# Altium footprint library Passive-Discrete.PcbLib: 30 footprints (part 2 of 2)
Each footprint in its own frame and in the unit in brackets; x right, y up, seen from the top. Pads: shape width x height; smd on the part's side, far side on the other; paste and mask are expansions set on the pad; w line width, h text height; cw(c..) or ccw(c..) is an arc to the next point about the centre after c.
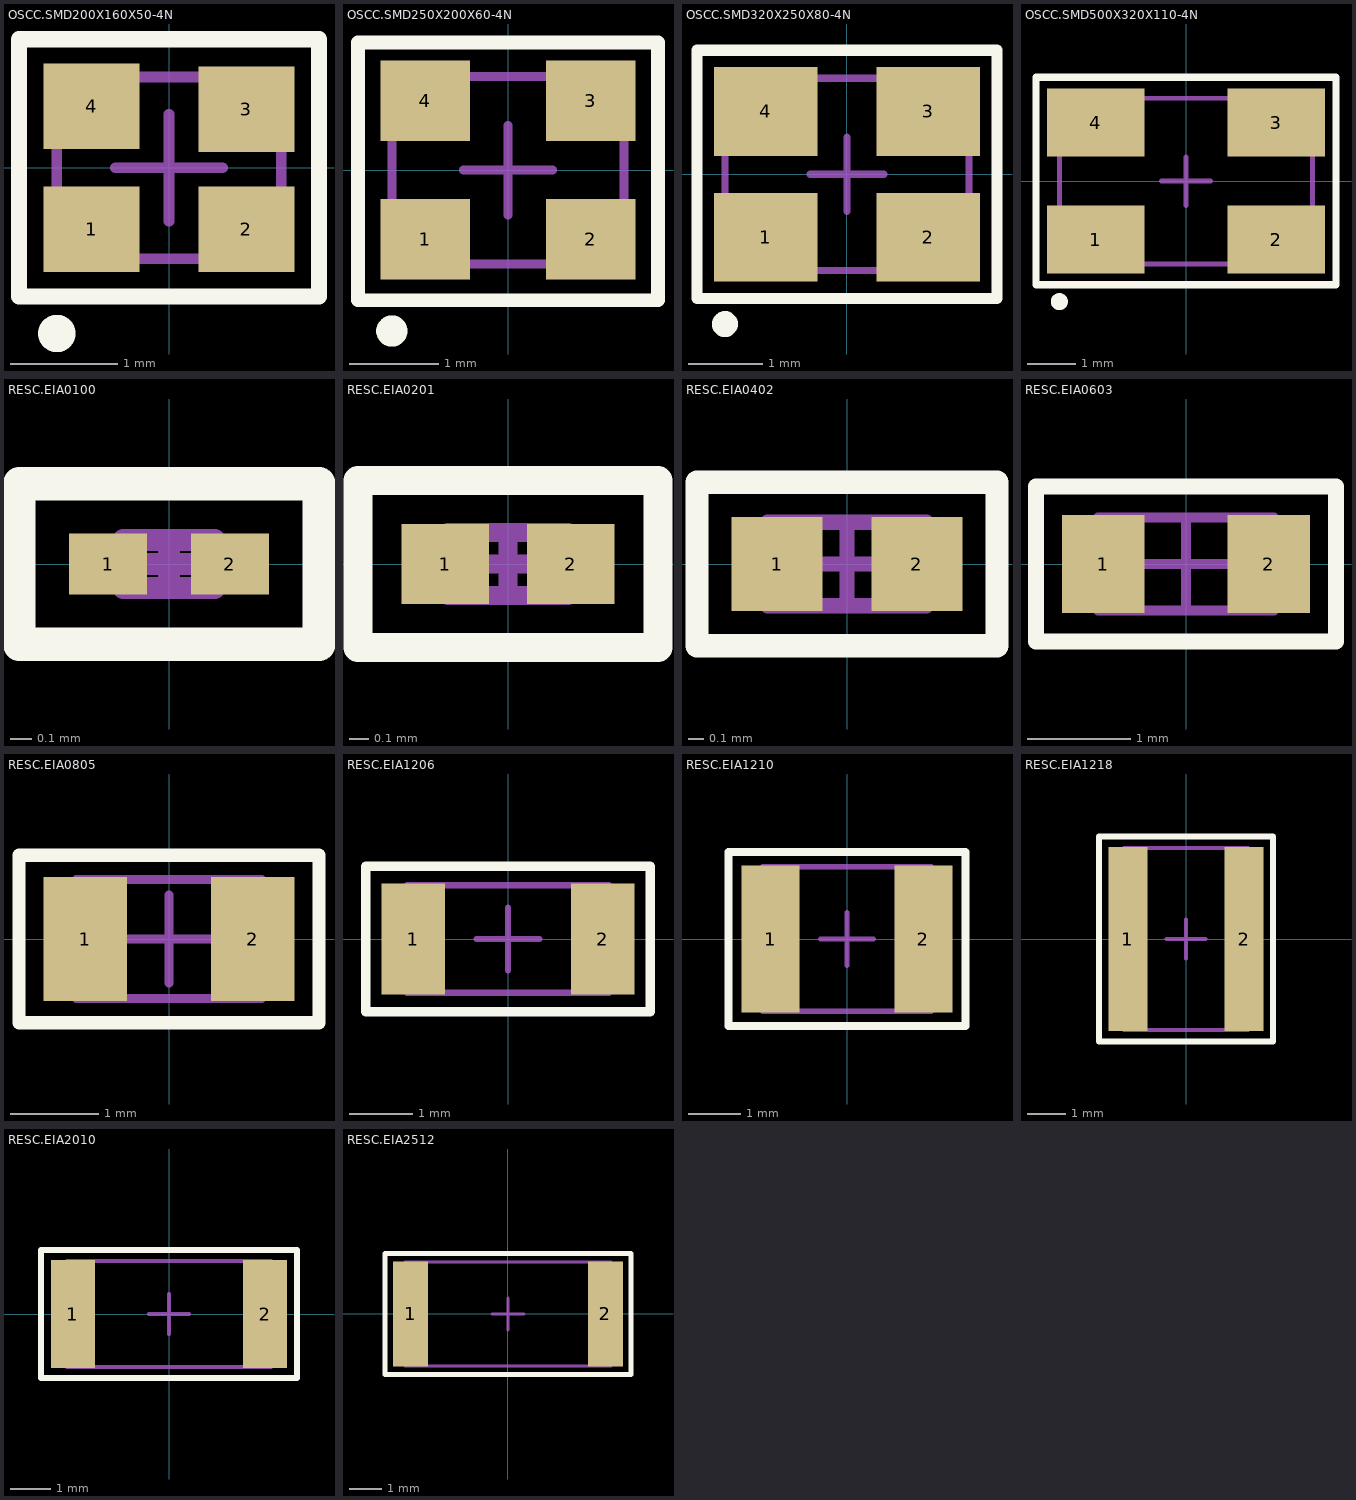
[diagram p1: the footprints below, top view; thin cyan lines are the x and y axes]

## OSCC.SMD200X160X50-4N [mm] "Oscillator Chip, 4-Leads, Body 1.60x2.00mm, Pitch 1.40mm, IPC Medium Density"
height 0.5
pads (4):
  rect 0.9x0.8 smd: 1(-0.725,-0.575) 2(0.725,-0.575) 3(0.725,0.55) 4(-0.725,0.575)
Top Overlay:
  circle w0.25: c-1.05,-1.55 r0.05
  lines w0.152: -1.404,-1.204 1.404,-1.204 1.404,1.204 -1.404,1.204 -1.404,-1.204
Mechanical 13:
  lines w0.1: -1.05,-0.85 -1.05,0.85 1.05,0.85 1.05,-0.85 -1.05,-0.85
Mechanical 15:
  lines w0.05: -1.379,-1.179 -1.379,1.179 1.379,1.179 1.379,-1.179 -1.379,-1.179
  lines w0.1: -0.5,0 0.5,0 ; 0,-0.5 0,0.5
3D body "OSCC.200X160X50-4N1.step": height 0.5, standoff 0, extent -1.05,-0.85 1.05,0.85

## OSCC.SMD250X200X60-4N [mm] "Oscillator Chip, 4-Leads, Body 2.00x2.50mm, Pitch 1.70mm, IPC Medium Density"
height 0.6
pads (4):
  rect 1x0.9 smd: 1(-0.925,-0.775) 2(0.925,-0.775) 3(0.925,0.775) 4(-0.925,0.775)
Top Overlay:
  circle w0.25: c-1.3,-1.8 r0.05
  lines w0.152: -1.679,-1.454 1.679,-1.454 ; -1.679,-1.429 -1.679,1.429 1.679,1.429 1.679,-1.429
Mechanical 13:
  lines w0.1: -1.3,-1.05 -1.3,1.05 1.3,1.05 1.3,-1.05 -1.3,-1.05
Mechanical 15:
  lines w0.05: -1.679,-1.429 -1.679,1.429 1.679,1.429 1.679,-1.429 -1.679,-1.429
  lines w0.1: -0.5,0 0.5,0 ; 0,-0.5 0,0.5
3D body "OSCC.SMD250X200X60-4N.step": height 0.6, standoff 0, extent -1.3,-1.05 1.3,1.05

## OSCC.SMD320X250X80-4N [mm] "Oscillator Chip, 4-Leads, Body 2.50x3.20mm, Pitch 2.20mm, IPC Medium Density"
height 0.8
pads (4):
  rect 1.4x1.2 smd: 1(-1.1,-0.85) 2(1.1,-0.85) 3(1.1,0.85) 4(-1.1,0.85)
Top Overlay:
  circle w0.25: c-1.65,-2.025 r0.05
  lines w0.152: -2.029,-1.679 -2.029,1.679 2.029,1.679 2.029,-1.679 -2.029,-1.679
Mechanical 13:
  lines w0.1: -1.65,-1.3 -1.65,1.3 1.65,1.3 1.65,-1.3 -1.65,-1.3
Mechanical 15:
  lines w0.05: -2.029,-1.679 2.029,-1.679 2.029,1.679 -2.029,1.679 -2.029,-1.679
  lines w0.1: -0.5,0 0.5,0 ; 0,-0.5 0,0.5
3D body "OSCC.XTAL320X250X80-4N.step": height 0.8, standoff 0, extent -1.65,-1.3 1.65,1.3

## OSCC.SMD500X320X110-4N [mm] "Oscillator Chip, 4-Leads, Body 3.20x5.00mm, Pitch 3.70mm, IPC Medium Density"
height 1.1
pads (4):
  rect 2x1.4 smd: 1(-1.85,-1.2) 2(1.85,-1.2) 3(1.85,1.2) 4(-1.85,1.2)
Top Overlay:
  circle w0.25: c-2.6,-2.475 r0.05
  lines w0.152: -3.079,-2.129 -3.079,2.129 3.079,2.129 3.079,-2.129 -3.079,-2.129
Mechanical 13:
  lines w0.1: -2.6,-1.7 -2.6,1.7 2.6,1.7 2.6,-1.7 -2.6,-1.7
Mechanical 15:
  lines w0.05: -3.079,-2.129 -3.079,2.129 3.079,2.129 3.079,-2.129 -3.079,-2.129
  lines w0.1: -0.5,0 0.5,0 ; 0,-0.5 0,0.5
3D body "OSCC.SMD500X320X110-4N.step": height 1.1, standoff 0, extent -2.6,-1.7 2.6,1.7

## RESC.EIA0100 [mm] "Chip Resistor, 2-Leads, Body 0.40x0.20mm, IPC Medium Density"
height 0.15
pads (2):
  rect 0.36x0.28 smd: 1(-0.28,0) 2(0.28,0)
Top Overlay:
  lines w0.152: -0.689,-0.369 0.689,-0.369 0.689,0.369 -0.689,0.369 -0.689,-0.369
Mechanical 13:
  lines w0.1: -0.21,-0.11 -0.21,0.11 0.21,0.11 0.21,-0.11 -0.21,-0.11
Mechanical 15:
  lines w0.05: -0.689,-0.369 -0.689,0.369 0.689,0.369 0.689,-0.369 -0.689,-0.369
  lines w0.1: -0.11,0 0.11,0 ; 0,-0.11 0,0.11
3D body "R_EIA0100_RESC0402X01N.step": height 0.15, standoff 0, extent -0.21,-0.11 0.21,0.11

## RESC.EIA0201 [mm] "Chip Resistor, 2-Leads, Body 0.60x0.30mm, IPC Medium Density"
height 0.26
pads (2):
  rect 0.46x0.42 smd: 1(-0.33,0) 2(0.33,0)
Top Overlay:
  lines w0.152: -0.789,-0.439 0.789,-0.439 0.789,0.439 -0.789,0.439 -0.789,-0.439
Mechanical 13:
  lines w0.1: -0.315,-0.165 -0.315,0.165 0.315,0.165 0.315,-0.165 -0.315,-0.165
Mechanical 15:
  lines w0.05: -0.789,-0.439 -0.789,0.439 0.789,0.439 0.789,-0.439 -0.789,-0.439
  lines w0.1: -0.165,0 0.165,0 ; 0,-0.165 0,0.165
3D body: height 0.26, standoff 0, extent -0.165,-0.165 0.165,0.165
3D body: height 0.26, standoff 0, extent -0.315,-0.165 -0.165,0.165
3D body: height 0.26, standoff 0, extent 0.165,-0.165 0.315,0.165

## RESC.EIA0402 [mm] "Chip Resistor, 2-Leads, Body 1.00x0.50mm, IPC Medium Density"
height 0.4
pads (2):
  rect 0.6x0.62 smd: 1(-0.46,0) 2(0.46,0)
Top Overlay:
  lines w0.152: -0.989,-0.539 0.989,-0.539 0.989,0.539 -0.989,0.539 -0.989,-0.539
Mechanical 13:
  lines w0.1: -0.525,-0.275 -0.525,0.275 0.525,0.275 0.525,-0.275 -0.525,-0.275
Mechanical 15:
  lines w0.05: -0.989,-0.539 -0.989,0.539 0.989,0.539 0.989,-0.539 -0.989,-0.539
  lines w0.1: -0.275,0 0.275,0 ; 0,-0.275 0,0.275
3D body: height 0.4, standoff 0, extent -0.275,-0.275 0.275,0.275
3D body: height 0.4, standoff 0, extent -0.525,-0.275 -0.275,0.275
3D body: height 0.4, standoff 0, extent 0.275,-0.275 0.525,0.275

## RESC.EIA0603 [mm] "Chip Resistor, 2-Leads, Body 1.60x0.80mm, IPC Medium Density"
height 0.55
pads (2):
  rect 0.8x0.95 smd: 1(-0.8,0) 2(0.8,0)
Top Overlay:
  lines w0.152: -1.45,-0.75 1.45,-0.75 1.45,0.75 -1.45,0.75 -1.45,-0.75
Mechanical 13:
  lines w0.1: -0.85,-0.45 0.85,-0.45 0.85,0.45 -0.85,0.45 -0.85,-0.45
Mechanical 15:
  lines w0.05: -1.45,-0.75 1.45,-0.75 1.45,0.75 -1.45,0.75 -1.45,-0.75
  lines w0.1: -0.45,0 0.45,0 ; 0,-0.45 0,0.45
3D body: height 0.55, standoff 0, extent 0.6,-0.45 0.85,0.45
3D body: height 0.55, standoff 0, extent -0.85,-0.45 -0.6,0.45
3D body: height 0.55, standoff 0, extent -0.6,-0.45 0.6,0.45

## RESC.EIA0805 [mm] "Chip Resistor, 2-Leads, Body 2.00x1.25mm, IPC Medium Density"
height 0.6
pads (2):
  rect 0.95x1.4 smd: 1(-0.95,0) 2(0.95,0)
Top Overlay:
  lines w0.152: -1.7,-0.95 -1.7,0.95 1.7,0.95 1.7,-0.95 -1.7,-0.95
Mechanical 13:
  lines w0.1: -1.05,-0.675 -1.05,0.675 1.05,0.675 1.05,-0.675 -1.05,-0.675
Mechanical 15:
  lines w0.05: -1.7,-0.95 -1.7,0.95 1.7,0.95 1.7,-0.95 -1.7,-0.95
  lines w0.1: -0.5,0 0.5,0 ; 0,-0.5 0,0.5
3D body: height 0.6, standoff 0, extent -0.7,-0.675 0.7,0.675
3D body: height 0.6, standoff 0, extent -1.05,-0.675 -0.7,0.675
3D body: height 0.6, standoff 0, extent 0.7,-0.675 1.05,0.675

## RESC.EIA1206 [mm] "Chip Resistor, 2-Leads, Body 3.10x1.60mm, IPC Medium Density"
height 0.65
pads (2):
  rect 1x1.75 smd: 1(-1.5,0) 2(1.5,0)
Top Overlay:
  lines w0.152: -2.25,-1.15 2.25,-1.15 2.25,1.15 -2.25,1.15 -2.25,-1.15
Mechanical 13:
  lines w0.1: -1.6,-0.85 1.6,-0.85 1.6,0.85 -1.6,0.85 -1.6,-0.85
Mechanical 15:
  lines w0.05: -2.25,-1.15 2.25,-1.15 2.25,1.15 -2.25,1.15 -2.25,-1.15
  lines w0.1: -0.5,0 0.5,0 ; 0,-0.5 0,0.5
3D body: height 0.65, standoff 0, extent 1.2,-0.85 1.6,0.85
3D body: height 0.65, standoff 0, extent -1.6,-0.85 -1.2,0.85
3D body: height 0.65, standoff 0, extent -1.2,-0.85 1.2,0.85

## RESC.EIA1210 [mm] "Chip Resistor, 2-Leads, Body 3.10x2.60mm, IPC Medium Density"
height 0.65
pads (2):
  rect 1.1x2.8 smd: 1(-1.45,0) 2(1.45,0)
Top Overlay:
  lines w0.152: -2.25,-1.65 -2.25,1.65 2.25,1.65 2.25,-1.65 -2.25,-1.65
Mechanical 13:
  lines w0.1: -1.6,-1.375 -1.6,1.375 1.6,1.375 1.6,-1.375 -1.6,-1.375
Mechanical 15:
  lines w0.05: -2.25,-1.65 -2.25,1.65 2.25,1.65 2.25,-1.65 -2.25,-1.65
  lines w0.1: -0.5,0 0.5,0 ; 0,-0.5 0,0.5
3D body: height 0.65, standoff 0, extent -1.1,-1.375 1.1,1.375
3D body: height 0.65, standoff 0, extent -1.6,-1.375 -1.1,1.375
3D body: height 0.65, standoff 0, extent 1.1,-1.375 1.6,1.375

## RESC.EIA1218 [mm] "Chip Resistor, 2-Leads, Body 3.10x4.60mm, IPC Medium Density"
height 0.65
pads (2):
  rect 1x4.75 smd: 1(-1.5,0) 2(1.5,0)
Top Overlay:
  lines w0.152: -2.25,-2.65 -2.25,2.65 2.25,2.65 2.25,-2.65 -2.25,-2.65
Mechanical 13:
  lines w0.1: -1.6,-2.35 -1.6,2.35 1.6,2.35 1.6,-2.35 -1.6,-2.35
Mechanical 15:
  lines w0.05: -2.25,-2.65 -2.25,2.65 2.25,2.65 2.25,-2.65 -2.25,-2.65
  lines w0.1: -0.5,0 0.5,0 ; 0,-0.5 0,0.5
3D body: height 0.65, standoff 0, extent -1.2,-2.35 1.2,2.35
3D body: height 0.65, standoff 0, extent -1.6,-2.35 -1.2,2.35
3D body: height 0.65, standoff 0, extent 1.2,-2.35 1.6,2.35

## RESC.EIA2010 [mm] "Chip Resistor, 2-Leads, Body 5.00x2.50mm, IPC Medium Density"
height 0.65
pads (2):
  rect 1.1x2.7 smd: 1(-2.4,0) 2(2.4,0)
Top Overlay:
  lines w0.152: -3.2,-1.6 -3.2,1.6 3.2,1.6 3.2,-1.6 -3.2,-1.6
Mechanical 13:
  lines w0.1: -2.55,-1.325 -2.55,1.325 2.55,1.325 2.55,-1.325 -2.55,-1.325
Mechanical 15:
  lines w0.05: -3.2,-1.6 -3.2,1.6 3.2,1.6 3.2,-1.6 -3.2,-1.6
  lines w0.1: -0.5,0 0.5,0 ; 0,-0.5 0,0.5
3D body: height 0.65, standoff 0, extent -2.05,-1.325 2.05,1.325
3D body: height 0.65, standoff 0, extent -2.55,-1.325 -2.05,1.325
3D body: height 0.65, standoff 0, extent 2.05,-1.325 2.55,1.325

## RESC.EIA2512 [mm] "Chip Resistor, 2-Leads, Body 6.35x3.10mm, IPC Medium Density"
height 0.65
pads (2):
  rect 1.1x3.3 smd: 1(-3.05,0) 2(3.05,0)
Top Overlay:
  lines w0.152: -3.85,-1.9 3.85,-1.9 3.85,1.9 -3.85,1.9 -3.85,-1.9
Mechanical 13:
  lines w0.1: -3.225,-1.625 3.225,-1.625 3.225,1.625 -3.225,1.625 -3.225,-1.625
Mechanical 15:
  lines w0.05: -3.85,-1.9 3.85,-1.9 3.85,1.9 -3.85,1.9 -3.85,-1.9
  lines w0.1: -0.5,0 0.5,0 ; 0,-0.5 0,0.5
3D body: height 0.65, standoff 0, extent 2.725,-1.625 3.225,1.625
3D body: height 0.65, standoff 0, extent -3.225,-1.625 -2.725,1.625
3D body: height 0.65, standoff 0, extent -2.725,-1.625 2.725,1.625